# Altium footprint library WE-CNSW-1812.PCBLIB: 1 footprints
Each footprint in its own frame and in the unit in brackets; x right, y up, seen from the top. Pads: shape width x height; smd on the part's side, far side on the other; paste and mask are expansions set on the pad; w line width, h text height; cw(c..) or ccw(c..) is an arc to the next point about the centre after c.
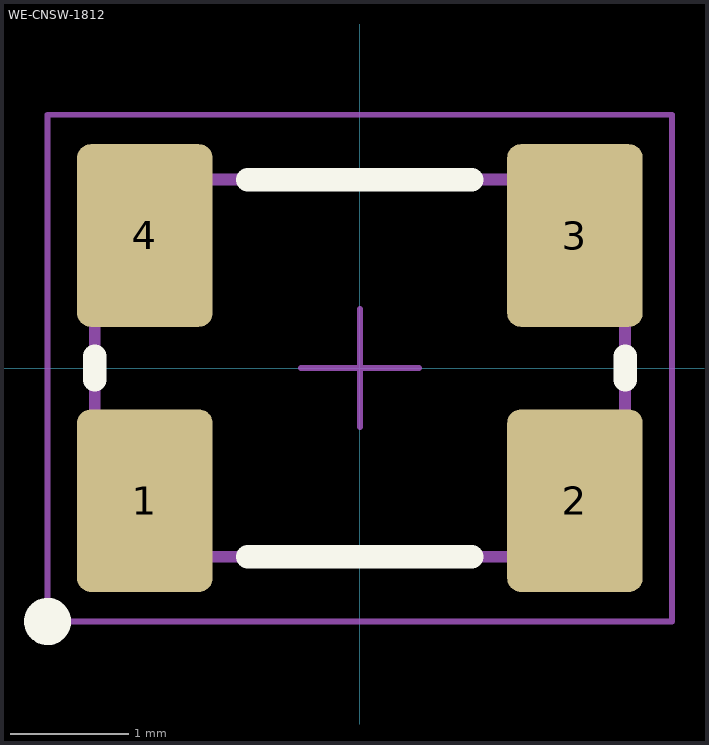
[diagram p0: the footprint, top view; thin cyan lines are the x and y axes]

## WE-CNSW-1812 [mm]
height 2.8
pads (4):
  rrect20% 1.15x1.55 smd: 1(-1.825,-1.125) 2(1.825,-1.125) 3(1.825,1.125) 4(-1.825,1.125)
Top Overlay:
  circle w0.2: c-2.65,-2.15 r0.1
  lines w0.2: -2.25,-0.1 -2.25,0.1 ; -0.95,-1.6 0.95,-1.6 ; -0.95,1.6 0.95,1.6 ; 2.25,-0.1 2.25,0.1
Top Assembly:
  circle w0.2: c-1.8,1.1 r0.1
  lines w0.1: -2.25,-1.6 2.25,-1.6 2.25,1.6 -2.25,1.6 -2.25,-1.6
Top Courtyard:
  lines w0.05: -2.65,-2.15 -2.65,2.15 2.65,2.15 2.65,-2.15 -2.65,-2.15
Top Designator:
  text ".Designator" at -1.6,-0.45 h1
Top Component Center:
  lines w0.05: -0.5,0 0.5,0 ; 0,-0.5 0,0.5
3D body "WE-CNSW_1812_CNSW (rev1).stp": height 2.81, standoff -0.04, extent -2.25,-1.6 2.25,1.6